# EAGLE library part TC7W04FK (library ICs)
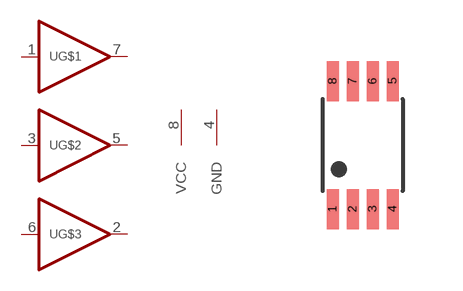
[diagram p24: symbol with the pads of SSOP8-P-0.50A; footprint SSOP8-P-0.50A]

Designator prefix -; gates G$1=BUFFER G$2=BUFFER G$3=BUFFER G$4=LOGIC_PWR

## TC7W04FK  [SSOP8-P-0.50A]
1  G$1:A  in
2  G$3:Y  out
3  G$2:A  in
4  G$4:GND
5  G$2:Y  out
6  G$3:A  in
7  G$1:Y  out
8  G$4:VCC

## Footprint SSOP8-P-0.50A (pad centres in mm)
smd 0.3 x 1: 1 -0.75,-1.6; 2 -0.25,-1.6; 3 0.25,-1.6; 4 0.75,-1.6; 5 0.75,1.6; 6 0.25,1.6; 7 -0.25,1.6; 8 -0.75,1.6